# EAGLE library part 634008137521 (library Wurth-USB)
WR-MJ Horizontal Shielded SMT with LED and EMI Panel Finger 8P8C Modular Jack Tab Up, 8 Pins=>Code : Con_I-O_MJ-H_Shielded_Up_634008137521 <http://katalog.we-online.de/media/images/eican/Con_I-O_MJ-H_Shielded_Up_634008137521_pf2.jpg> Details see: http://katalog.we-online.de/en/em/MJ_SMT_HORIZONTAL_SHIELDED_W_LED_AND_EMI_PANEL_FINGER_8P8C_TAB_UP/634008137521 Created 2014-07-10, Karrer Zheng 2014 (C) Würth Elektronik
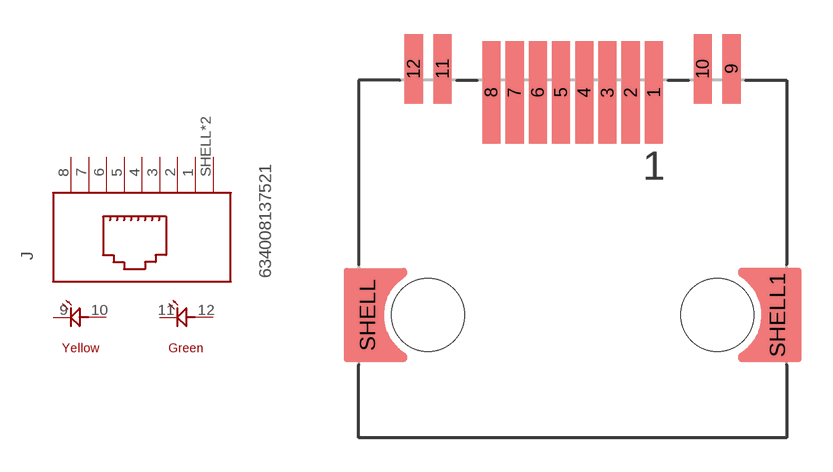
[diagram p136: symbol with the pads of 634008137521; footprint 634008137521]

Designator prefix J

## 634008137521  [634008137521]
1  1  pas
2  2  pas
3  3  pas
4  4  pas
5  5  pas
6  6  pas
7  7  pas
8  8  pas
9  10  pas
10  9  pas
11  12  pas
12  11  pas
SHELL  SHIELD  pas
SHELL1  SHIELD  pas

## Footprint 634008137521 (pad centres in mm)
WR-MJ Horizontal Shielded SMT with LED and EMI Panel Finger 8P8C Modular Jack Tab Up, 8 Pins
smd 0.8 x 4.5: 1 3.57,9.76; 2 2.55,9.76; 3 1.53,9.76; 4 0.51,9.76; 5 -0.51,9.76; 6 -1.53,9.76; 7 -2.55,9.76; 8 -3.57,9.76
smd 0.8 x 3.05: 9 6.98,10.8; 10 5.71,10.8; 11 -5.71,10.8; 12 -6.98,10.8
smd 1 x 3.89: SHELL -9,0; SHELL1 9,0
hole 3.2 at -6.35,0
hole 3.2 at 6.35,0